# Altium schematic symbol library Inductances.SCHLIB: 10 symbols
Pins are listed as number, name and electrical type; pins without a type are passive.

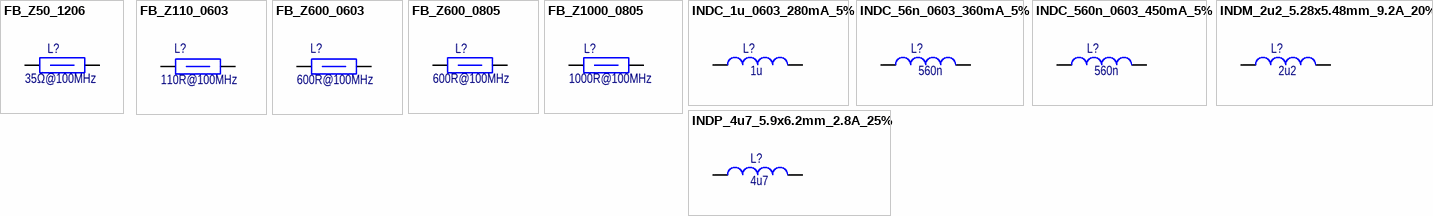
[diagram p0: symbols FB_Z50_1206 to INDP_4u7_5.9x6.2mm_2.8A_25%]

## FB_Z50_1206
designator L?, comment value 35Ω@100MHz  (hidden comment: BLM31PG500SN1L)
Ferrite Bead; Z=50R; 1 Line; DCR=15mR; 1206; Manufacturer: Murata Electronics; ComponentLink1Description: Supplier Info; ComponentLink1URL: https://www.digikey.de/product-detail/en/murata-electronics-north-america/BLM31PG500SN1L/490-1055-6-ND/1826162; ComponentLink2Description: Datasheet; ComponentLink2URL: https://www.murata.com/en-us/products/productdata/8796739698718/ENFA0006.pdf; Manufacturer Part Number: BLM31PG500SN1L; Supplier 1: Digi-Key; Supplier Part Number 1: 490-1055-1-ND
footprint INDC1206
pins: 1, 2

## FB_Z110_0603
designator L?, comment value 110R@100MHz  (hidden comment: 74279228111)
Ferrite Bead; Z=110R; 1 Line; DCR=20mR; 0603; Manufacturer: Würth Elektronik; Manufacturer Part Number: 74279228111; Supplier 1: Digi-Key; Supplier Part Number 1: 732-6116-1-ND; ComponentLink1Description: Supplier Info; ComponentLink1URL: https://www.digikey.com/en/products/detail/w%C3%BCrth-elektronik/74279228111/5051044?s=N4IgTCBcDaIOwGYwFoBsBGdq3IHIBEQBdAXyA; ComponentLink2Description: Datasheet; ComponentLink2URL: https://www.we-online.de/katalog/datasheet/74279228111.pdf
footprint INDC0603
pins: 1, 2

## FB_Z600_0603
designator L?, comment value 600R@100MHz  (hidden comment: BLM18KG601SN1D)
Ferrite Bead, Z=600R; 1 Line; DCR=150mR; 0603; Manufacturer: Murata Electronics; Manufacturer Part Number: BLM18KG601SN1D; Supplier 1: Digi-Key; Supplier Part Number 1: 490-5258-1-ND; ComponentLink1Description: Supplier Info; ComponentLink1URL: https://www.digikey.com/en/products/detail/murata-electronics/BLM18KG601SN1D/1982766?s=N4IgTCBcDaIEIBkCyBGAHAaQOIDYAMKAygHIoAiIAugL5A; ComponentLink2Description: Datasheet; ComponentLink2URL: https://media.digikey.com/pdf/Data%20Sheets/Murata%20PDFs/BLM18yyyyyyN1x.pdf
footprint INDC0603
pins: 1, 2

## FB_Z600_0805
designator L?, comment value 600R@100MHz  (hidden comment: 742792040)
Ferrite Bead, Z=600R; 1 Line; DCR=150mR; 0805; Manufacturer: Würth Elektronik; Manufacturer Part Number: 742792040; Supplier 1: Digi-Key; Supplier Part Number 1: 732-1620-1-ND; ComponentLink1Description: Supplier Info; ComponentLink1URL: https://www.digikey.de/products/en/filters/ferrite-beads-and-chips/841?k=742792040&k=&pkeyword=742792040&sv=0&pv7=243&sf=0&quantity=&ColumnSort=0&page=1&pageSize=25; ComponentLink2Description: Datasheet; ComponentLink2URL: https://katalog.we-online.de/pbs/datasheet/742792040.pdf
footprint INDC0805
pins: 1, 2

## FB_Z1000_0805
designator L?, comment value 1000R@100MHz  (hidden comment: BMB2A1000LN2)
Ferrite Bead, Z=1000R; 1 Line; DCR=300mR; 0805; Manufacturer: TE Connectivity Passive Product; Manufacturer Part Number: BMB2A1000LN2; ComponentLink1Description: Supplier Info; ComponentLink1URL: https://www.digikey.co.uk/en/products/detail/te-connectivity-passive-product/BMB2A1000LN2/2054602; ComponentLink2Description: Datasheet; ComponentLink2URL: https://www.te.com/commerce/DocumentDelivery/DDEController?Action=srchrtrv&DocNm=1773181&DocType=DS&DocLang=English; Supplier 1: Digi-key; Supplier Part Number 1: A102197CT-ND
footprint INDC0805
pins: 1, 2

## INDC_1u_0603_280mA_5%
designator L?, comment value 1u  (hidden comment: AISC-0603F-1R0J-T)
Inductor; Chip; Unshielded; 1uH; 5%; 280mA; 940mR; 0603; Manufacturer: Abracon LLC; ComponentLink1Description: Supplier Info; ComponentLink1URL: https://www.digikey.com/en/products/detail/abracon-llc/AISC-0603F-1R0J-T/4696662?s=N4IgTCBcDaIKwGY4FoCCBJAygYWQBgDY8EAxZARgCU8ApZAFQBEBpS5AOUZAF0BfIA; ComponentLink2Description: Datasheet; ComponentLink2URL: https://abracon.com/Magnetics/inductors/AISC-0603F.pdf; Manufacturer Part Number: AISC-0603F-1R0J-T; Supplier 1: Digi-Key; Supplier Part Number 1: 535-AISC-0603F-1R0J-TCT-ND
footprint INDC0603
pins: 1, 2

## INDC_56n_0603_360mA_5%
designator L?, comment value 560n  (hidden comment: LQW18CNR56J00D)
Inductor; Chip; Unshielded; 56nH; 5%; 360mA; 350mR; 0603; Manufacturer: Murata Electronics; Manufacturer Part Number: LQW18AN56NJ00D; ComponentLink1Description: Supplier Info; ComponentLink1URL: https://www.digikey.com/en/products/detail/murata-electronics/LQW18AN56NJ00D/584385?s=N4IgTCBcDaICwE4AMBaAjGg7JlA2FAcgCIgC6AvkA; ComponentLink2Description: Datasheet; ComponentLink2URL: https://search.murata.co.jp/Ceramy/image/img/P02/JELF243A-0024.pdf; Supplier 1: Digi-Key; Supplier Part Number 1: 490-10774-1-ND
footprint INDC0603
pins: 1, 2

## INDC_560n_0603_450mA_5%
designator L?, comment value 560n  (hidden comment: LQW18CNR56J00D)
Inductor; Chip; Unshielded; 560nH; 5%; 450mA; 480mR; 0603; Manufacturer: Murata Electronics; ComponentLink1Description: Supplier Info; ComponentLink1URL: https://www.digikey.com/en/products/detail/murata-electronics/LQW18CNR56J00D/4359480?s=N4IgTCBcDaICwE4AMBaAjEg7JuKBsKAcgCIgC6AvkA; ComponentLink2Description: Datasheet; ComponentLink2URL: https://www.murata.com/~/media/webrenewal/support/library/catalog/products/inductor/chip/o05e.ashx?la=en-us; Manufacturer Part Number: LQW18CNR56J00D; Supplier 1: Digi-Key; Supplier Part Number 1: 490-10774-1-ND
footprint INDC0603
pins: 1, 2

## INDM_2u2_5.28x5.48mm_9.2A_20%
designator L?, comment value 2u2  (hidden comment: XAL5030-222MEC)
Inductor; Shielded; Power; Molded; 2.2uH; 20%; 9.2A; 14.5mR; SMD; Manufacturer: Coilcraft; ComponentLink1Description: Supplier Info; ComponentLink1URL: https://www.mouser.bg/ProductDetail/Coilcraft/XAL5030-222MEC?qs=%2Fha2pyFadujL6ZQVP3GRzmFCJWjdkBAZyhfdIsJxwmljQsAdODRIwHBPYM77Bcia; ComponentLink2Description: Datasheet; ComponentLink2URL: https://www.coilcraft.com/getmedia/49bc46c8-4b2c-45b9-9b6c-2eaa235ea698/xal50xx.pdf; Manufacturer Part Number: XAL5030-222MEC; Supplier 1: Mouser; Supplier Part Number 1: 994-XAL5030-222MEC
footprint Coilcraft-XAL5030
pins: 1, 2

## INDP_4u7_5.9x6.2mm_2.8A_25%
designator L?, comment value 4u7  (hidden comment: 7447786004)
Inductor; Shielded; Wirewound; 4.7uH; 25%; 2.8A; 65mR; SMD; Manufacturer: Würth Elektronik; ComponentLink1Description: Supplier Info; ComponentLink1URL: https://www.digikey.de/products/en/inductors-coils-chokes/fixed-inductors/71?k=7447786004&k=&pkeyword=7447786004&sv=0&pv7=243&sf=0&quantity=&ColumnSort=0&page=1&pageSize=25; ComponentLink2Description: Datasheet; ComponentLink2URL: https://katalog.we-online.de/pbs/datasheet/7447786004.pdf; Manufacturer Part Number: 7447786004; Supplier 1: Digi-Key; Supplier Part Number 1: 732-3296-1-ND
footprint WE-PD-XS
pins: 1, 2